# EAGLE library part EPM240T100C5N (library CPLD EPM240T100C5N)
CPLD MAX II Family 192 Macro Cells 201.1MHz 0.18um Technology 2.5V/3.3V 100-Pin TQFP Check availability <https://pricing.snapeda.com/parts/EPM240T100C5N/Intel/view-part?ref=eda>
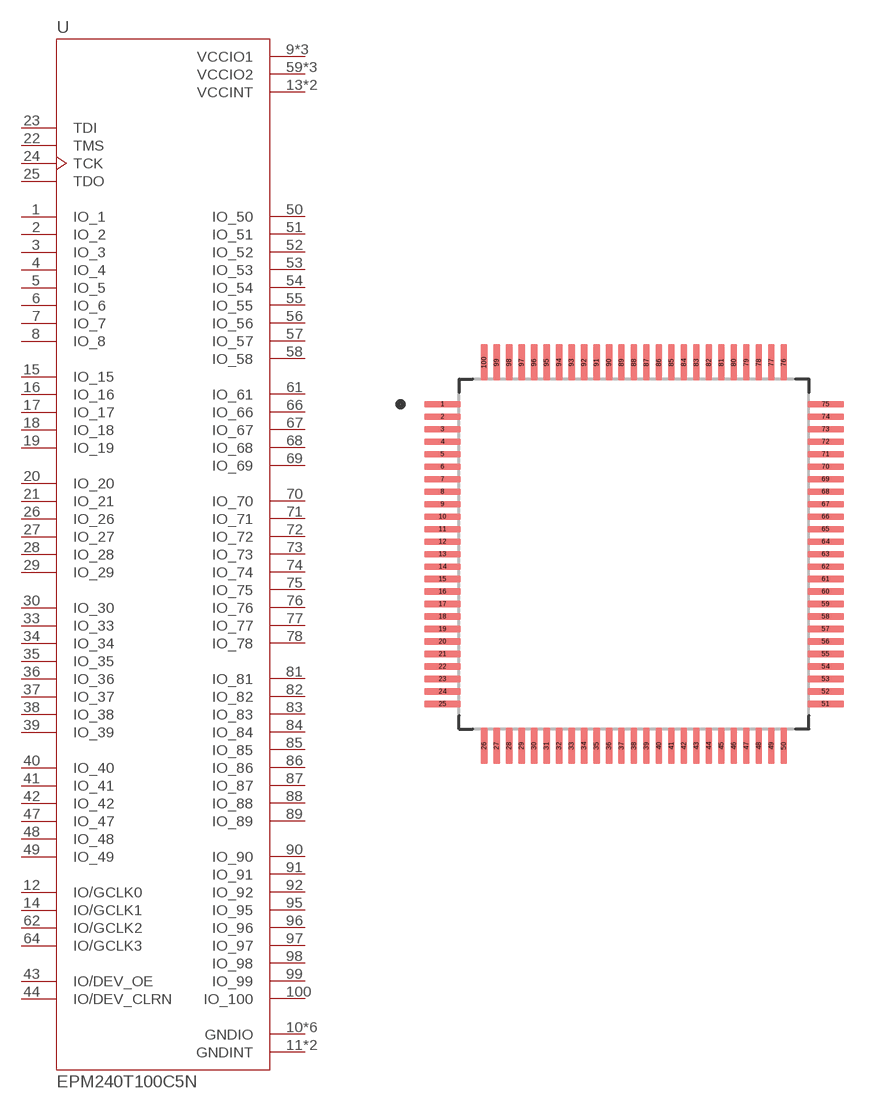
[diagram p0: symbol with the pads of QFP50P1600X1600X120-100N; footprint QFP50P1600X1600X120-100N]

Designator prefix U

## EPM240T100C5N (Availability: In Stock; Description: IC CPLD 192MC 4.7NS 100TQFP; MF: Intel; MP: EPM240T100C5N; Package: QFN-100 Intel; Price: None; Purchase-URL: https://pricing.snapeda.com/search/part/EPM240T100C5N/?ref=eda)  [QFP50P1600X1600X120-100N]
1  IO_1
2  IO_2
3  IO_3
4  IO_4
5  IO_5
6  IO_6
7  IO_7
8  IO_8
9  VCCIO1  pwr
10  GNDIO  pwr
11  GNDINT  pwr
12  IO/GCLK0
13  VCCINT  pwr
14  IO/GCLK1
15  IO_15
16  IO_16
17  IO_17
18  IO_18
19  IO_19
20  IO_20
21  IO_21
22  TMS  in
23  TDI  in
24  TCK  in
25  TDO  out
26  IO_26
27  IO_27
28  IO_28
29  IO_29
30  IO_30
31  VCCIO1  pwr
32  GNDIO  pwr
33  IO_33
34  IO_34
35  IO_35
36  IO_36
37  IO_37
38  IO_38
39  IO_39
40  IO_40
41  IO_41
42  IO_42
43  IO/DEV_OE
44  IO/DEV_CLRN
45  VCCIO1  pwr
46  GNDIO  pwr
47  IO_47
48  IO_48
49  IO_49
50  IO_50
51  IO_51
52  IO_52
53  IO_53
54  IO_54
55  IO_55
56  IO_56
57  IO_57
58  IO_58
59  VCCIO2  pwr
60  GNDIO  pwr
61  IO_61
62  IO/GCLK2
63  VCCINT  pwr
64  IO/GCLK3
65  GNDINT  pwr
66  IO_66
67  IO_67
68  IO_68
69  IO_69
70  IO_70
71  IO_71
72  IO_72
73  IO_73
74  IO_74
75  IO_75
76  IO_76
77  IO_77
78  IO_78
79  GNDIO  pwr
80  VCCIO2  pwr
81  IO_81
82  IO_82
83  IO_83
84  IO_84
85  IO_85
86  IO_86
87  IO_87
88  IO_88
89  IO_89
90  IO_90
91  IO_91
92  IO_92
93  GNDIO  pwr
94  VCCIO2  pwr
95  IO_95
96  IO_96
97  IO_97
98  IO_98
99  IO_99
100  IO_100

## Footprint QFP50P1600X1600X120-100N (pad centres in mm)
smd 1.47 x 0.28: 1 -7.67,6; 2 -7.67,5.5; 3 -7.67,5; 4 -7.67,4.5; 5 -7.67,4; 6 -7.67,3.5; 7 -7.67,3; 8 -7.67,2.5; 9 -7.67,2; 10 -7.67,1.5; 11 -7.67,1; 12 -7.67,0.5; 13 -7.67,0; 14 -7.67,-0.5; 15 -7.67,-1; 16 -7.67,-1.5; 17 -7.67,-2; 18 -7.67,-2.5; 19 -7.67,-3; 20 -7.67,-3.5; 21 -7.67,-4; 22 -7.67,-4.5; 23 -7.67,-5; 24 -7.67,-5.5; 25 -7.67,-6; 51 7.67,-6; 52 7.67,-5.5; 53 7.67,-5; 54 7.67,-4.5; 55 7.67,-4; 56 7.67,-3.5; 57 7.67,-3; 58 7.67,-2.5; 59 7.67,-2; 60 7.67,-1.5; 61 7.67,-1; 62 7.67,-0.5; 63 7.67,0; 64 7.67,0.5; 65 7.67,1; 66 7.67,1.5; 67 7.67,2; 68 7.67,2.5; 69 7.67,3; 70 7.67,3.5; 71 7.67,4; 72 7.67,4.5; 73 7.67,5; 74 7.67,5.5; 75 7.67,6
smd 0.28 x 1.47: 26 -6,-7.67; 27 -5.5,-7.67; 28 -5,-7.67; 29 -4.5,-7.67; 30 -4,-7.67; 31 -3.5,-7.67; 32 -3,-7.67; 33 -2.5,-7.67; 34 -2,-7.67; 35 -1.5,-7.67; 36 -1,-7.67; 37 -0.5,-7.67; 38 0,-7.67; 39 0.5,-7.67; 40 1,-7.67; 41 1.5,-7.67; 42 2,-7.67; 43 2.5,-7.67; 44 3,-7.67; 45 3.5,-7.67; 46 4,-7.67; 47 4.5,-7.67; 48 5,-7.67; 49 5.5,-7.67; 50 6,-7.67; 76 6,7.67; 77 5.5,7.67; 78 5,7.67; 79 4.5,7.67; 80 4,7.67; 81 3.5,7.67; 82 3,7.67; 83 2.5,7.67; 84 2,7.67; 85 1.5,7.67; 86 1,7.67; 87 0.5,7.67; 88 0,7.67; 89 -0.5,7.67; 90 -1,7.67; 91 -1.5,7.67; 92 -2,7.67; 93 -2.5,7.67; 94 -3,7.67; 95 -3.5,7.67; 96 -4,7.67; 97 -4.5,7.67; 98 -5,7.67; 99 -5.5,7.67; 100 -6,7.67